# EAGLE library part MICROBUILDER_HEADER-1X10 (library Adafruit_ADS1115_16Bit_I2C_ADC)
PIN HEADER
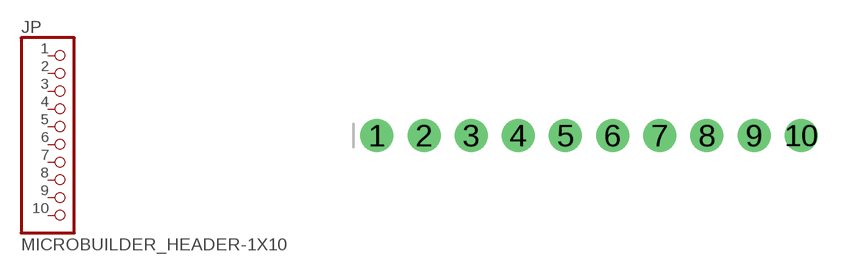
[diagram p1: symbol with the pads of MICROBUILDER_1X10_ROUND70; footprint MICROBUILDER_1X10_ROUND70]

Designator prefix JP

## MICROBUILDER_HEADER-1X1070MIL  [MICROBUILDER_1X10_ROUND70]
1  1  pas
2  2  pas
3  3  pas
4  4  pas
5  5  pas
6  6  pas
7  7  pas
8  8  pas
9  9  pas
10  10  pas

## Footprint MICROBUILDER_1X10_ROUND70 (pad centres in mm)
drill 1 pad 1.778: 1 -11.43,0; 2 -8.89,0; 3 -6.35,0; 4 -3.81,0; 5 -1.27,0; 6 1.27,0; 7 3.81,0; 8 6.35,0; 9 8.89,0; 10 11.43,0